# Altium schematic symbol library LSM6DSRXTR.SchLib: 1 symbol
Pins are listed as number, name and electrical type; pins without a type are passive.

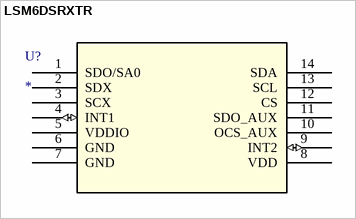
[diagram p0: symbol LSM6DSRXTR]

## LSM6DSRXTR
designator U?
No Description Available; Mfr_Name: STMicroelectronics; RefDes: RefDes; Type: Type
footprint LSM6 (Footprint not found)
pins: 1 SDO/SA0, 2 SDX, 3 SCX, 4 INT1 (io), 5 VDDIO (power), 6 GND (power), 7 GND (power), 8 VDD (power), 9 INT2 (io), 10 OCS_AUX, 11 SDO_AUX, 12 CS, 13 SCL, 14 SDA